# Altium schematic symbol library Resonator filter design.SCHLIB: 17 symbols
Pins are listed as number, name and electrical type; pins without a type are passive.

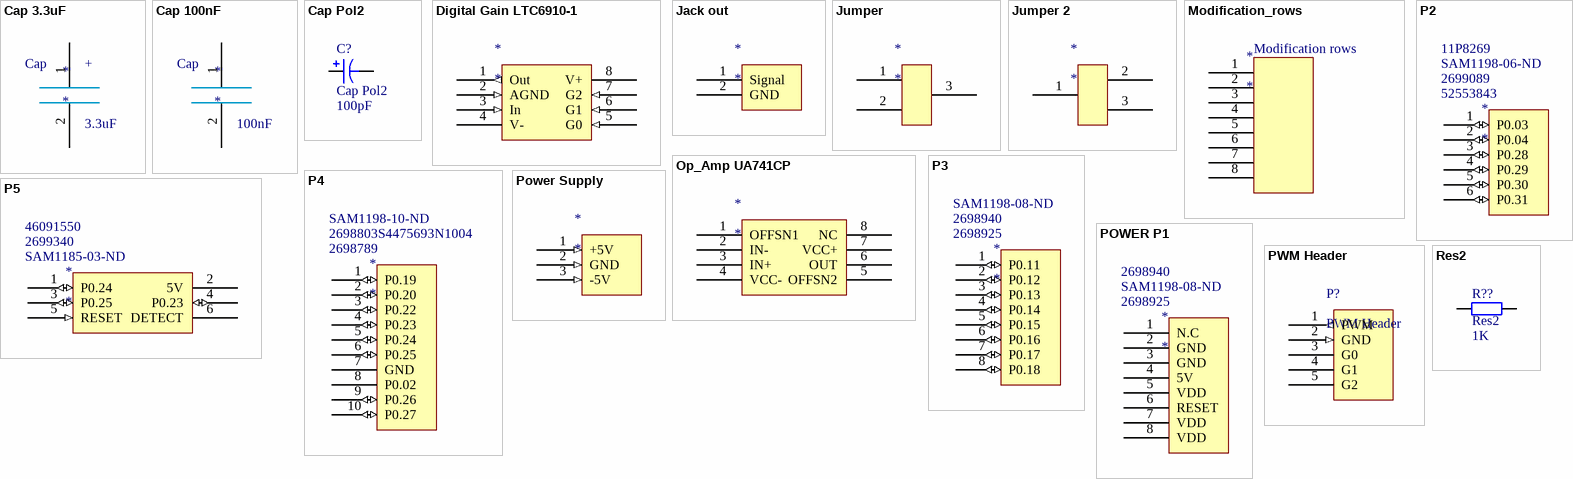
[diagram p0: symbols Cap 3.3uF to Res2]

## Cap 3.3uF
designator *
pins: 1, 2
text: Cap; +; 3.3uF

## Cap 100nF
designator *
pins: 1, 2
text: Cap; 100nF

## Cap Pol2
designator C?  value 100pF
Polarized Capacitor (Axial); Published: 8-Jun-2000; LatestRevisionDate: 17-Jul-2002; LatestRevisionNote: Re-released for DXP Platform.; PackageReference: POLAR0.8; Publisher: Altium Limited; PackageDescription: Polarized Capacitor; 2 Leads
footprint POLAR0.8 (Polarized Capacitor; 2 Leads)
simulation model CAP (Capacitor)
signal-integrity model Cap Pol
pins: 1, 2
1 alternate drawing of the same symbol

## Digital Gain LTC6910-1
designator *
pins: 1 Out (out), 2 AGND (in), 3 In (in), 4 V- (power), 5 G0 (in), 6 G1 (in), 7 G2 (in), 8 V+ (power)

## Jack out
designator *
pins: 1 Signal, 2 GND

## Jumper
designator *
footprint Jumper
pins: 1, 2, 3

## Jumper 2
designator *
footprint Jumper2
pins: 1, 2, 3

## Modification_rows
designator *
pins: 1, 2, 3, 4, 5, 6, 7, 8
text: Modification rows

## Op_Amp UA741CP
designator *
footprint Op-Amp UA741CP
pins: 1 OFFSN1, 2 IN-, 3 IN+, 4 VCC-, 5 OFFSN2, 6 OUT, 7 VCC+, 8 NC

## P2
designator *  Supplier Part Number 1: 52553843  Supplier Part Number 2: 2699089  Supplier Part Number 3: SAM1198-06-ND  Supplier Part Number 4: 11P8269
Supplier 1: Arrow; Supplier 2: Arrow; Supplier 3: Digi-Key; Supplier 4: Newark
footprint Header 6x1 8.5mm (Stackable 6 pin header)
pins: 1 P0.03 (io), 2 P0.04 (io), 3 P0.28 (io), 4 P0.29 (io), 5 P0.30 (io), 6 P0.31 (io)

## P3
designator *  Supplier Part Number 1: 2698925  Supplier Part Number 2: 2698940  Supplier Part Number 3: SAM1198-08-ND
Supplier 1: Arrow; Supplier 2: Arrow; Supplier 3: Digi-Key
footprint Header 8x1 8.5mm (Stackable 8 pin header)
pins: 1 P0.11 (io), 2 P0.12 (io), 3 P0.13 (io), 4 P0.14 (io), 5 P0.15 (io), 6 P0.16 (io), 7 P0.17 (io), 8 P0.18 (io)

## P4
designator *  Supplier Part Number 1: 2698789  Supplier Part Number 2: 2698803S4475693N1004  Supplier Part Number 3: SAM1198-10-ND
Supplier 1: Arrow; Supplier 2: Arrow; Supplier 3: Digi-Key
footprint Header 10x1 8.5mm (Stackable 10 pin header)
pins: 1 P0.19 (io), 2 P0.20 (io), 3 P0.22 (io), 4 P0.23 (io), 5 P0.24 (io), 6 P0.25 (io), 7 GND (power), 8 P0.02, 9 P0.26 (io), 10 P0.27 (io)

## P5
designator *  Supplier Part Number 1: SAM1185-03-ND  Supplier Part Number 2: 2699340  Supplier Part Number 3: 46091550
Supplier 1: Digi-Key; Supplier 2: Arrow; Supplier 3: Arrow
footprint P5
pins: 1 P0.24 (io) "MISO", 2 5V (power), 3 P0.25 (io) "SCK", 4 P0.23 (io) "MOSI", 5 RESET (in), 6 DETECT (power) "GND"

## POWER P1
designator *  Supplier Part Number 1: 2698925  Supplier Part Number 2: SAM1198-08-ND  Supplier Part Number 3: 2698940
Supplier 1: Arrow; Supplier 2: Digi-Key; Supplier 3: Arrow
footprint Header 8x1 8.5mm (Stackable 8 pin header)
pins: 1 N.C (power) "VIN", 2 GND (power), 3 GND (power), 4 5V (power), 5 VDD (power) "3V3", 6 RESET, 7 VDD (power) "IOREF", 8 VDD

## Power Supply
designator *
pins: 1 +5V (in), 2 GND (in), 3 -5V (in)

## PWM Header
designator P?
pins: 1 PWM (out), 2 GND (in), 3 G0, 4 G1, 5 G2

## Res2
designator R??  value 1K
Resistor; Published: 8-Jun-2000; LatestRevisionDate: 17-Jul-2002; LatestRevisionNote: Re-released for DXP Platform.; PackageReference: AXIAL-0.4; Publisher: Altium Limited; PackageDescription: Axial Device, Thru-Hole; 2 Leads; 0.4 in Pin Spacing
footprint AXIAL-0.4 (Axial Device, Thru-Hole; 2 Leads; 0.4 in Pin Spacing)
simulation model RESISTOR (Resistor)
signal-integrity model Res
pins: 1, 2